# Altium footprint library PTS647SN50SMTR2LFS.PcbLib: 1 footprints
Each footprint in its own frame and in the unit in brackets; x right, y up, seen from the top. Pads: shape width x height; smd on the part's side, far side on the other; paste and mask are expansions set on the pad; w line width, h text height; cw(c..) or ccw(c..) is an arc to the next point about the centre after c.
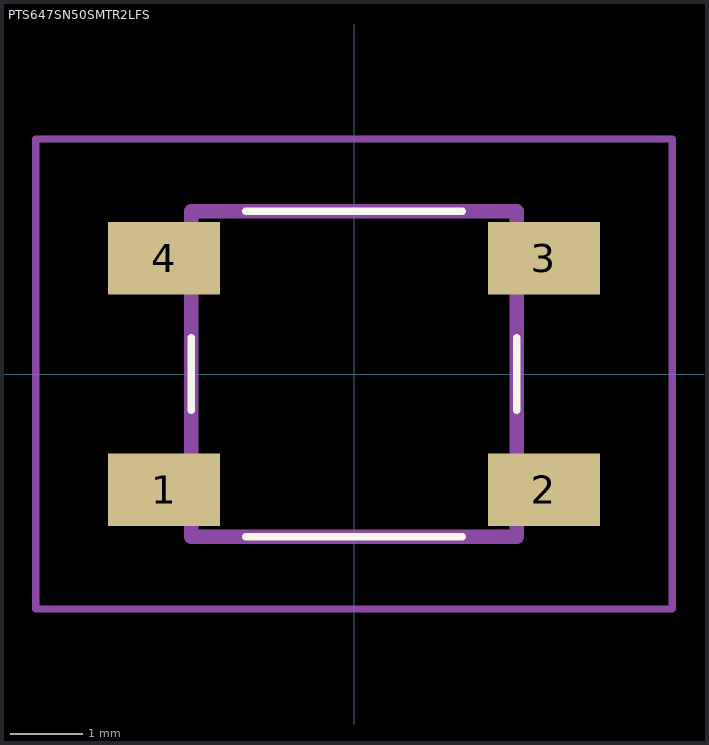
[diagram p0: the footprint, top view; thin cyan lines are the x and y axes]

## PTS647SN50SMTR2LFS [mm]
pads (4):
  rect 1.55x1 smd: 1(-2.625,-1.6) 2(2.625,-1.6) 3(2.625,1.6) 4(-2.625,1.6)
Top Overlay:
  lines w0.1: -2.25,-0.5 -2.25,0.5 ; -1.5,-2.25 1.5,-2.25 ; -1.5,2.25 1.5,2.25 ; 2.25,-0.5 2.25,0.5
Mechanical 15:
  lines w0.2: -2.25,-2.25 2.25,-2.25 2.25,2.25 -2.25,2.25 -2.25,-2.25
Mechanical 20:
  lines w0.1: -4.4,-3.25 4.4,-3.25 4.4,3.25 -4.4,3.25 -4.4,-3.25